# Altium integrated library 0154004.DR.IntLib: 1 symbol
Pins are listed as number, name and electrical type; pins without a type are passive.

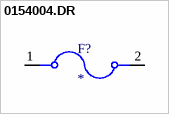
[diagram p0: symbol 0154004.DR]

## 0154004.DR
designator F?
154/154T/154L/154TL Series OMNI-BLOKÂ® Fuse and Holder Assembly; MP: 0154004.DR; Package: None; Availability: Unavailable; Value: *; Price: None
footprint FUSE_0154004.DR
pins: 1, 2